# Altium schematic symbol library BW2098POE.SchLib: 55 symbols (part 3 of 3)
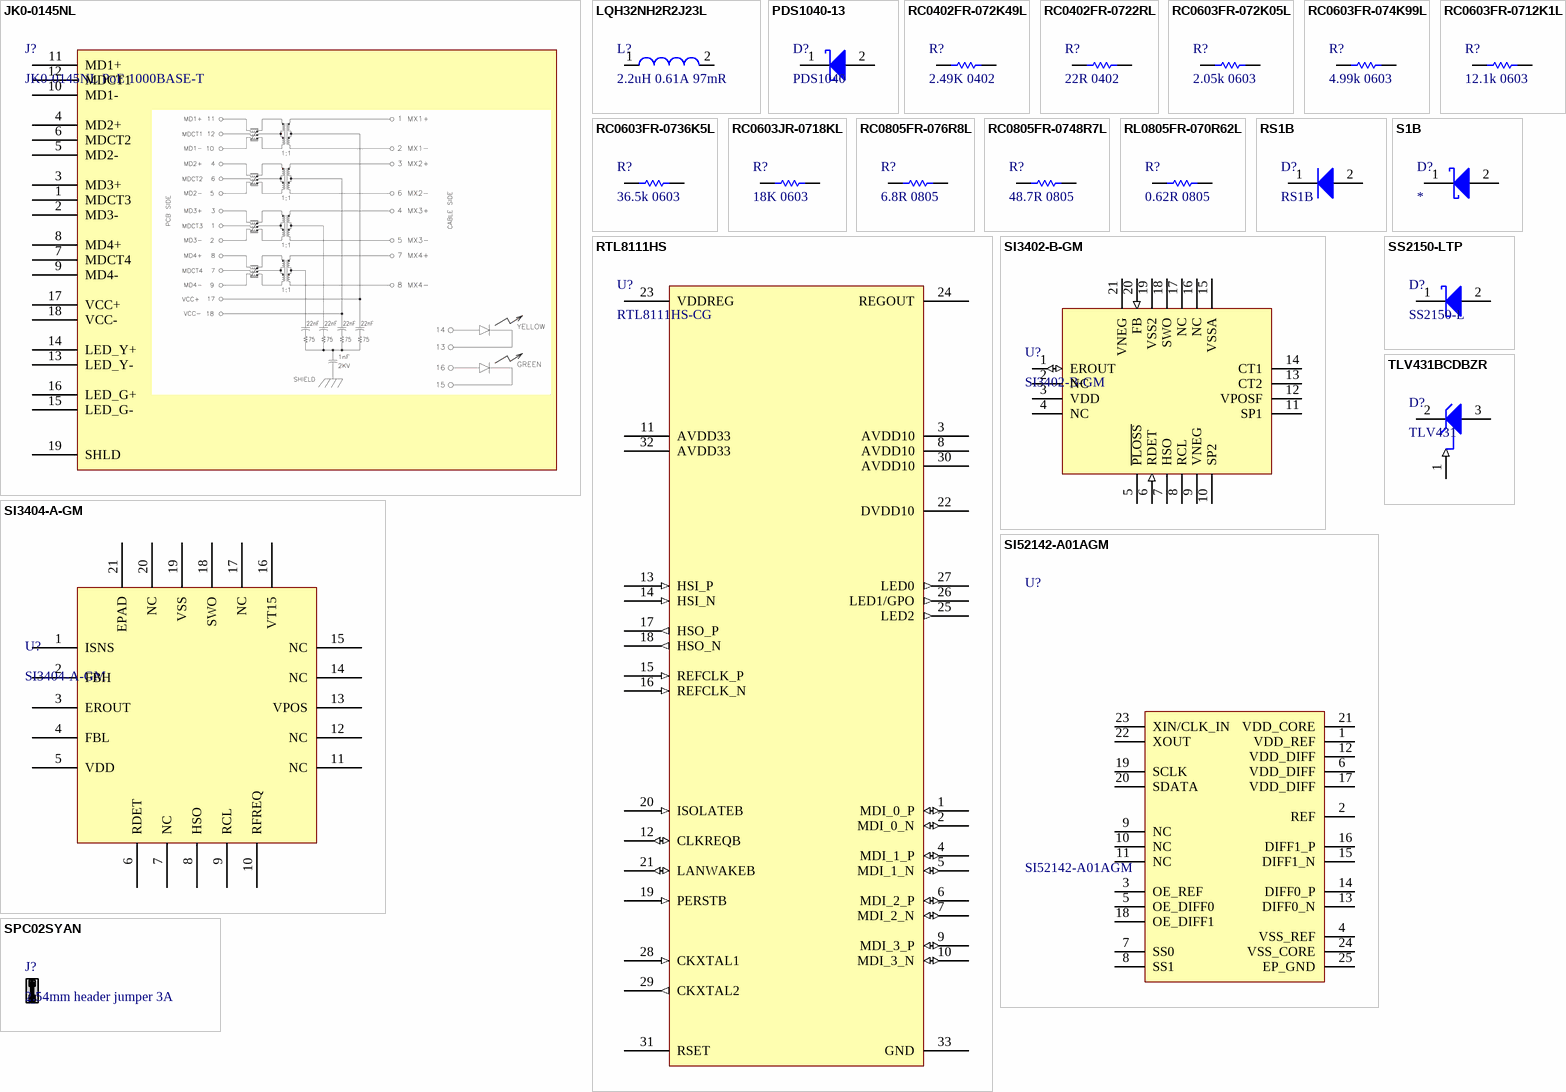
[diagram p4: symbols JK0-0145NL to TLV431BCDBZR]

## RC0805FR-0748R7L
designator R?, comment 48.7R 0805
RES SMD 48.7 OHM 1% 1/8W 0805; Manufacturer 1: Yageo; Manufacturer Part Number 1: RC0805FR-0748R7L; Temperature Coefficient: 100ppm/°C; Power Rating: 125mW; Voltage Rating: 150V; Supplier 1: Digi-Key; Stock 1: 11096; Pricing 1: 1=0.10000, 10=0.04000, 100=0.01630, 1000=0.00731, 2500=0.00635 (USD); RoHS: Yes; Case/Package: 0805; Contact Plating: Tin,Matte; Case Code (Metric): 2012; Case Code (Imperial): 0805; Min Operating Temperature: -55°C; Max Operating Temperature: 155°C; Resistance: 48.7R; Tolerance: 1%; Composition: Thick Film; Package Quantity: 1; Packaging: Tape and Reel; Number of Terminations: 2; Termination: SMD/SMT; Military Standard: Not; Max Power Dissipation: 125mW; Voltage Rating (DC): 150V; Features: Moisture Resistant; Length: 2mm; Height: 0.024inch; Width: 0.049inch; Depth: 1.25mm; Radiation Hardening: No; Lead Free: Lead Free; ComponentLink1URL: https://datasheet.ciiva.com/2457/pyu-r-int-thick-7-2457344.pdf?src-supplier=Digi-Key; ComponentLink1Description: https://datasheet.ciiva.com/2457/pyu-r-int-thick-7-2457344.pdf?src-supplier=Digi-Key; ComponentLink2URL: https://datasheet.ciiva.com/2457/pyu-r-int-thick-7-2457345.pdf?src-supplier=Digi-Key; ComponentLink2Description: https://datasheet.ciiva.com/2457/pyu-r-int-thick-7-2457345.pdf?src-supplier=Digi-Key; ComponentLink3URL: https://datasheet.ciiva.com/2457/pyu-r-int-thick-7-2457346.pdf?src-supplier=Digi-Key; ComponentLink3Description: https://datasheet.ciiva.com/2457/pyu-r-int-thick-7-2457346.pdf?src-supplier=Digi-Key; Supplier 2: Mouser; Supplier 3: Arrow; Supplier Part Number 1: 311-48.7CRCT-ND; Supplier Part Number 2: 603-RC0805FR-0748R7L; Supplier Part Number 3: RC0805FR-0748R7L
footprint RESC0805(2012)_L (Chip Resistor, Body 2.0x1.3mm, IPC High Density)
footprint RESC0805(2012)_M (Chip Resistor, Body 2.0x1.3mm, IPC Low Density)
footprint RESC0805(2012)_N (Chip Resistor, Body 2.0x1.3mm, IPC Medium Density)
pins: 1, 2

## RL0805FR-070R62L
designator R?, comment 0.62R 0805
RES SMD 620 MOHM 1% 1/8W 0805; Manufacturer 1: Yageo; Manufacturer Part Number 1: RL0805FR-070R62L; Resistance: 620mR; Power Rating: 125mW; Temperature Coefficient: 200ppm/°C; Voltage Rating (DC): 300V; Supplier 1: Digi-Key; Stock 1: 16217; Pricing 1: 1=0.33000, 10=0.28200, 100=0.11030, 1000=0.04619, 2500=0.04234 (USD); RoHS: Yes; Case/Package: 0805; Weight: 0.000194oz; Case Code (Metric): 2012; Case Code (Imperial): 0805; Contact Plating: Tin,Matte; Min Operating Temperature: -55°C; Max Operating Temperature: 125°C; Packaging: Tape and Reel; Tolerance: 1%; Package Quantity: 1; Composition: Thick Film; Termination: SMD/SMT; Number of Terminations: 2; Max Power Dissipation: 125mW; Features: Moisture Resistant; Length: 0.079inch; Height: 0.024inch; Width: 0.049inch; Radiation Hardening: No; Lead Free: Lead Free; ComponentLink1URL: https://datasheet.ciiva.com/15328/pyu-rl-521-rohs-l-5-15328303.pdf?src-supplier=Mouser; ComponentLink1Description: https://datasheet.ciiva.com/15328/pyu-rl-521-rohs-l-5-15328303.pdf?src-supplier=Mouser; Supplier 2: Mouser; Supplier 3: Future Electronics; Supplier Part Number 1: 311-.62SCT-ND; Supplier Part Number 2: 603-RL0805FR-070R62L; Supplier Part Number 3: RL0805FR-070R62L-CUTT
footprint RESC0805(2012)_L (Chip Resistor, Body 2.0x1.3mm, IPC High Density)
footprint RESC0805(2012)_M (Chip Resistor, Body 2.0x1.3mm, IPC Low Density)
footprint RESC0805(2012)_N (Chip Resistor, Body 2.0x1.3mm, IPC Medium Density)
pins: 1, 2

## RS1B
designator D?
DIODE GEN PURP 100V 1A SMA; Manufacturer 1: ON Semiconductor / Fairchild; Reverse Recovery Time: 150ns; Element Configuration: Single; Peak Reverse Current: 5uA; Peak Non-Repetitive Surge Current: 30A; Forward Voltage: 1.3V; Polarity: Standard; Capacitance: 10pF; Power Dissipation: 1.19W; Supplier 1: Digi-Key; Manufacturer Part Number 1: RS1B; Stock 1: 3961; Pricing 1: 1=0.43000, 10=0.32100, 100=0.15260, 500=0.12452, 1000=0.09239 (USD); RoHS: Yes; Mount: Surface Mount; Case/Package: SMA; Number of Pins: 2; Weight: 0.106g; Min Operating Temperature: -55°C; Max Operating Temperature: 150°C; Packaging: Tape and Reel; Forward Current: 1A; Max Repetitive Reverse Voltage (Vrrm): 100V; Max Reverse Voltage (DC): 100V; Average Rectified Current: 1A; Package Quantity: 1; Max Surge Current: 30A; Recovery Time: 150ns; Voltage Rating (DC): 100V; Current Rating: 1A; Output Current: 1A; Max Forward Surge Current (Ifsm): 30A; Reverse Voltage: 100V; Length: 4.75mm; Height: 2.2mm; Width: 2.95mm; Radiation Hardening: No; Lead Free: Lead Free; ComponentLink1URL: https://datasheet.ciiva.com/4452/rs1b-191999-4452400.pdf?src-supplier=Mouser; ComponentLink1Description: https://datasheet.ciiva.com/4452/rs1b-191999-4452400.pdf?src-supplier=Mouser; ComponentLink2URL: https://datasheet.ciiva.com/17433/rs1b-17433986.pdf?src-supplier=Future+Electronics; ComponentLink2Description: https://datasheet.ciiva.com/17433/rs1b-17433986.pdf?src-supplier=Future+Electronics; ComponentLink3URL: https://datasheet.ciiva.com/26232/rs1m-26232022.pdf?src-supplier=Avnet+Europe; ComponentLink3Description: https://datasheet.ciiva.com/26232/rs1m-26232022.pdf?src-supplier=Avnet+Europe; ComponentLink4URL: https://datasheet.ciiva.com/6381/rs1a-6381114.pdf?src-supplier=Digi-Key; ComponentLink4Description: https://datasheet.ciiva.com/6381/rs1a-6381114.pdf?src-supplier=Digi-Key; ComponentLink5URL: https://datasheet.ciiva.com/8300/rs1m-8300922.pdf?src-supplier=Avnet; ComponentLink5Description: https://datasheet.ciiva.com/8300/rs1m-8300922.pdf?src-supplier=Avnet; ComponentLink6URL: https://datasheet.ciiva.com/6381/rs1a-6381113.pdf?src-supplier=Digi-Key; ComponentLink6Description: https://datasheet.ciiva.com/6381/rs1a-6381113.pdf?src-supplier=Digi-Key; ComponentLink7URL: https://datasheet.ciiva.com/6381/rs1a-6381115.pdf?src-supplier=Digi-Key; ComponentLink7Description: https://datasheet.ciiva.com/6381/rs1a-6381115.pdf?src-supplier=Digi-Key; ComponentLink8URL: https://datasheet.ciiva.com/26818/getdatasheetpartid-71159-26818043.pdf?src-supplier=Verical; ComponentLink8Description: https://datasheet.ciiva.com/26818/getdatasheetpartid-71159-26818043.pdf?src-supplier=Verical; Supplier 2: Newark; Supplier 3: Mouser; Supplier Part Number 1: RS1BFSCT-ND; Supplier Part Number 2: 29AC9918; Supplier Part Number 3: 512-RS1B
footprint RS1B (Molded Diode, 2-Leads, Body 4.30x2.59mm, IPC Medium Density)
pins: 1 K, 2 A

## RTL8111HS
designator U?, comment RTL8111HS-CG
IC ETHERNET/PCIe PHY Realtek; Manufacturer 1: Realtek; Manufacturer Part Number 1: RTL8111HS-CG; Supplier 1: Symmetry Electronics; Supplier Part Number 1: RTL8111HS-CG; Supplier 2: Future Electronics; Supplier Part Number 2: RTL8111HS-CG
footprint RTL8111Hx-CG (QFN, 32-Leads, Body 4.00x4.00mm, Pitch 0.40mm, Thermal Pad 2.70x2.70mm, IPC High Density)
pins: 1 MDI_0_P (io), 2 MDI_0_N (io), 3 AVDD10, 4 MDI_1_P (io), 5 MDI_1_N (io), 6 MDI_2_P (io), 7 MDI_2_N (io), 8 AVDD10, 9 MDI_3_P (io), 10 MDI_3_N (io), 11 AVDD33, 12 CLKREQB (io) "Ref Clk Request Signal. Active low. 1.8/3.3V compatible. Open Drain. Used by device to request starting of the PCIe ref clk. Pin also used by L1.off mechanism - can be asserted by device or system to initiate an L1 exit.", 13 HSI_P (in), 14 HSI_N (in), 15 REFCLK_P (in), 16 REFCLK_N (in), 17 HSO_P (out), 18 HSO_N (out), 19 PERSTB (in) "PCIe Reset Signal. Active low. 1.8/3.3V compatible. When asserted at POR, device returns to a pre-defined reset state and is ready for init and config after de-assertion of PERSTB", 20 ISOLATEB (in) "Active low. 1.8V/3.3V compatible. Used to isolate device from PCIe bus. Device will not drive its PCIe outputs (except LANWAKEB) and will not sample its PCIe input when this pin is asserted. This pin follows system state S0 to high, and S3/S4 to low.", 21 LANWAKEB (io) "Open drain, Active low. 1.8/3.3V compatible. Used to reactivate the PCIe slot's main power rails and ref clks.", 22 DVDD10, 23 VDDREG, 24 REGOUT, 25 LED2 (out), 26 LED1/GPO (out), 27 LED0 (out), 28 CKXTAL1 (in), 29 CKXTAL2 (out), 30 AVDD10, 31 RSET "External resistor reference", 32 AVDD33, 33 GND

## S1B
designator D?
DIODE GEN PURP 100V 1A SMA; Manufacturer 1: ON Semiconductor / Fairchild; Manufacturer Part Number 1: S1B; Forward Voltage: 1.1V; Polarity: Standard; Capacitance: 12pF; Max Surge Current: 40A; Peak Reverse Current: 1uA; Peak Non-Repetitive Surge Current: 30A; Element Configuration: Single; Recovery Time: 1800ns; Reverse Recovery Time: 1.8us; Power Dissipation: 1.4W; Supplier 1: Digi-Key; Stock 1: 85243; Pricing 1: 1=0.24000, 10=0.19800, 100=0.08110, 500=0.06768, 1000=0.04702 (USD); RoHS: Yes; Mount: Surface Mount; Case/Package: SMA; Number of Pins: 2; Weight: 0.106g; Contact Plating: Tin,Matte; Min Operating Temperature: -55°C; Max Operating Temperature: 150°C; Packaging: Tape and Reel; Current Rating: 1A; Package Quantity: 1; Voltage Rating (DC): 100V; Output Current: 1A; Forward Current: 1A; Average Rectified Current: 1A; Max Reverse Voltage (DC): 100V; Max Repetitive Reverse Voltage (Vrrm): 100V; Max Forward Surge Current (Ifsm): 30A; Reverse Voltage: 100V; Length: 4.75mm; Height: 2.2mm; Width: 2.95mm; Radiation Hardening: No; Lead Free: Lead Free; REACH SVHC: No SVHC; ComponentLink1URL: https://datasheet.ciiva.com/4452/s1b-196602-4452914.pdf?src-supplier=Mouser; ComponentLink1Description: https://datasheet.ciiva.com/4452/s1b-196602-4452914.pdf?src-supplier=Mouser; ComponentLink2URL: https://datasheet.ciiva.com/25624/0900766b810e25be-25624908.pdf?src-supplier=RSComponents; ComponentLink2Description: https://datasheet.ciiva.com/25624/0900766b810e25be-25624908.pdf?src-supplier=RSComponents; ComponentLink3URL: https://datasheet.ciiva.com/916/s1a-916901.pdf?src-supplier=Digi-Key; ComponentLink3Description: https://datasheet.ciiva.com/916/s1a-916901.pdf?src-supplier=Digi-Key; ComponentLink4URL: https://datasheet.ciiva.com/916/s1a-916902.pdf?src-supplier=Digi-Key; ComponentLink4Description: https://datasheet.ciiva.com/916/s1a-916902.pdf?src-supplier=Digi-Key; ComponentLink5URL: https://datasheet.ciiva.com/916/s1a-916903.pdf?src-supplier=Digi-Key; ComponentLink5Description: https://datasheet.ciiva.com/916/s1a-916903.pdf?src-supplier=Digi-Key; Supplier 2: Mouser; Supplier 3: Newark; Supplier Part Number 1: S1BFSCT-ND; Supplier Part Number 2: 512-S1B; Supplier Part Number 3: 26AC4113
footprint SB1 (Molded Diode, 2-Leads, Body 4.30x2.59mm, IPC Medium Density)
pins: 1 K, 2 A

## SI3402-B-GM
designator U?
IC POE PD LOW EMI SW REG 20VQFN; Manufacturer 1: Silicon Labs; Number of Channels: 1; Max Power Dissipation: 17W; Operating Supply Current: 2mA; Supplier 1: Digi-Key; Manufacturer Part Number 1: SI3402-B-GM; Stock 1: 1551; Pricing 1: 1=1.65000, 25=1.58640, 100=1.52550, 1000=1.50290 (USD); RoHS: Yes; Case/Package: VQFN; Min Operating Temperature: -40°C; Max Operating Temperature: 85°C; Packaging: Tray; ComponentLink1URL: http://www.mouser.com/ds/2/368/Si3402-B-892354.pdf?src-supplier=Mouser; ComponentLink1Description: http://www.mouser.com/ds/2/368/Si3402-B-892354.pdf?src-supplier=Mouser; ComponentLink2URL: https://www.silabs.com/Support%20Documents%2fTechnicalDocs%2fSi3402-B.pdf?src-supplier=Digi-Key; ComponentLink2Description: https://www.silabs.com/Support%20Documents%2fTechnicalDocs%2fSi3402-B.pdf?src-supplier=Digi-Key; Supplier 2: Mouser; Supplier 3: Newark; Supplier Part Number 1: 336-4205-ND; Supplier Part Number 3: 75AC1959; Supplier Part Number 2: 634-SI3402-B-GM
footprint SI3402-B-GM (QFN, 20-Leads, Body 5x5mm, Pitch 0.8mm, Thermal Pad 2.7x2.7mm, IPC Medium Density)
pins: 1 EROUT (io) "Error-amplifier output and PWM input; directly connected to opto-coupler in isolated application", 2 NC "Soft-start output pin ramps voltage across external soft-start capacitor to allow switcher to ramp output slowly.", 3 VDD (power) "5 V supply rail for switcher; provides drive for opto-coupler", 4 NC "Isolated mode soft start enable input. Tie to VDD for non-isolated applications. Connect a 0.1 uF capacitor between this pin and VSSA for isolated applications.", 5 ~{PLOSS} (oc) "Early power loss indicator; open drain output is pulled to VPOS when VPORT is applied.", 6 RDET (in) "Input pin for external precision detection resistor; also used for establishing absolute current reference.", 7 HSO (power) "Hotswap switch output; connects to VNEG through hotswap switch.", 8 RCL "Input pin for external precision classification resistor; float if optional RCLASS is unused.", 9 VNEG (power) "Rectified high-voltage supply, negative rail. Must be connected to thermal PAD node (VNEG) on package bottom. This thermal pad must be connected to VNEG (pin #9) as well as a 2 in2 heat spreader plane using a minimum of nine (See Datasheet)", 10 SP2 (power) "High-voltage supply input from spare pair; polarity-insensitive.", 11 SP1 (power) "High-voltage supply input from spare pair; polarity-insensitive.", 12 VPOSF (power) "Rectified high-voltage supply, positive rail (force node)", 13 CT2 (power) "High-voltage supply input from center tap of Ethernet transformer; polarity-insensitive.", 14 CT1 (power) "High-voltage supply input from center tap of Ethernet transformer; polarity-insensitive.", 15 VSSA (power) "Analog ground.", 16 NC "The positive rail sense node function is no longer implemented. Therefore, this pin is not internally connected.", 17 NC "This former negative supply rail pin is no longer implemented. Therefore, this pin is not internally connected.", 18 SWO (oc) "Switching transistor output; drain of switching N-FET.", 19 VSS2 (power) "Negative supply rail for switcher; externally tied to HSO.", 20 FB (in) "Regulated feedback input in non-isolated application.", 21 VNEG (power) "Rectified high-voltage supply, negative rail. Must be connected to thermal PAD node (VNEG) on package bottom. This thermal pad must be connected to VNEG (pin #9) as well as a 2 in2 heat spreader plane using a minimum of nine (See Datasheet)"

## SI3404-A-GM
designator U?
IC POE CNTRL 1 CHANNEL 20QFN; Manufacturer 1: Silicon Labs; Supplier 1: Digi-Key; Manufacturer Part Number 1: SI3404-A-GM; Stock 1: 1481; Pricing 1: 1=1.46000, 25=1.41040, 100=1.35600, 1000=1.33340 (USD); RoHS: No; ComponentLink1URL: https://www.silabs.com/documents/public/data-sheets/si3404-datasheet.pdf?src-supplier=Digi-Key; ComponentLink1Description: https://www.silabs.com/documents/public/data-sheets/si3404-datasheet.pdf?src-supplier=Digi-Key; Supplier 2: Mouser; Supplier Part Number 1: 336-4270-ND; Supplier Part Number 2: 634-SI3404-A-GM
footprint Si3404-A-GM (QFN, 20-Leads, Body 4.00x4.00mm, Pitch 0.50mm, Thermal Pad 2.60x2.60mm, IPC Medium Density)
pins: 1 ISNS "Chip current sense resistor input", 2 FBH "High side (VPOS referred) dc-dc feedback (Buck converter)", 3 EROUT "Error amplifier current output, compensation impedance", 4 FBL "Low side (VSS referenced) dc-dc feedback (Flyback converter)", 5 VDD "5 V regulator output", 6 RDET "Detection resistor", 7 NC "(NC) Connect to VNEG for better thermal performance", 8 HSO "Hotswap switch output", 9 RCL "Classification resistor", 10 RFREQ "Oscillator frequency tuning resistor, tie to VPOS to select", 11 NC "(NC) Connect to VNEG for better thermal performance", 12 NC "(NC) Connect to VNEG for better thermal performance", 13 VPOS "Rectified high-voltage supply positive rail", 14 NC "(NC) Connect to VNEG for better thermal performance", 15 NC "(NC) Connect to VNEG for better thermal performance", 16 VT15 "dc-dc transformer auxiliary winding input", 17 NC "(NC) Connect to VNEG for better thermal performance", 18 SWO "Internal dc-dc switch output (NMOS drain)", 19 VSS "dc-dc converter primary ground", 20 NC "(NC) Connect to VNEG for better thermal performance", 21 EPAD "Rectified high voltage supply ground"

## SI52142-A01AGM
designator U?
IC CLK GENERATOR 200MHZ 24QFN; Manufacturer 1: Silicon Labs; Number of Outputs: 2; Operating Supply Voltage: 3.3V; Number of Circuits: 1; Max Duty Cycle: 55%; Input: Clock; PLL: Yes; Frequency: 100MHz; Min Supply Voltage: 3.135V; Max Supply Voltage: 3.465V; Supplier 1: Digi-Key; Manufacturer Part Number 1: SI52142-A01AGM; RoHS: Yes; Category: Clock and Timing; Stock 1: 398; Pricing 1: 1=1.81000, 25=1.66320, 100=1.51200, 1000=1.36080 (USD); Case/Package: QFN; Number of Pins: 24; Min Operating Temperature: -40°C; Max Operating Temperature: 85°C; Package Quantity: 490; Packaging: Tray; Max Frequency: 200MHz; Length: 4mm; Height: 0.75mm; Width: 4mm; Radiation Hardening: No; REACH SVHC: Unknown; ComponentLink1URL: https://datasheet.ciiva.com/1178/si52142-1178690.pdf?src-supplier=Digi-Key; ComponentLink1Description: https://datasheet.ciiva.com/1178/si52142-1178690.pdf?src-supplier=Digi-Key; ComponentLink2URL: https://datasheet.ciiva.com/26919/getdatasheetpartid-550913-26919827.pdf?src-supplier=Verical; ComponentLink2Description: https://datasheet.ciiva.com/26919/getdatasheetpartid-550913-26919827.pdf?src-supplier=Verical; ComponentLink3URL: https://datasheet.ciiva.com/46413/1813417-46413349.pdf?src-supplier=Element14; ComponentLink3Description: https://datasheet.ciiva.com/46413/1813417-46413349.pdf?src-supplier=Element14; ComponentLink4URL: https://datasheet.ciiva.com/4771/si52142-4771159.pdf?src-supplier=Mouser; ComponentLink4Description: https://datasheet.ciiva.com/4771/si52142-4771159.pdf?src-supplier=Mouser; Supplier 2: Mouser; Supplier 3: Newark; Supplier Part Number 1: 336-2157-ND; Supplier Part Number 3: 54X5497; Supplier Part Number 2: 634-SI52142A01A-GM
footprint SI52142-A01AGM (24-QFN (4x4))
pins: 1 VDD_REF, 2 REF, 3 OE_REF, 4 VSS_REF, 5 OE_DIFF0, 6 VDD_DIFF, 7 SS0, 8 SS1, 9 NC, 10 NC, 11 NC, 12 VDD_DIFF, 13 DIFF0_N, 14 DIFF0_P, 15 DIFF1_N, 16 DIFF1_P, 17 VDD_DIFF, 18 OE_DIFF1, 19 SCLK, 20 SDATA, 21 VDD_CORE, 22 XOUT, 23 XIN/CLK_IN, 24 VSS_CORE, 25 EP_GND

## SPC02SYAN
designator J?, comment 2.54mm header jumper 3A
CONN JUMPER SHORTING GOLD FLASH; Manufacturer 1: Sullins; Manufacturer Part Number 1: SPC02SYAN; Number of Positions: 2; Pitch: 0.1inch; Supplier 1: Digi-Key; RoHS: Yes; Category: Connectors; Stock 1: 308371; Pricing 1: 1=0.10000, 10=0.05900, 25=0.04400, 50=0.03780, 100=0.03650, 250=0.03152, 500=0.03024, 1000=0.02646, 2500=0.02394 (USD); Color: Black; Contact Plating: Gold; Package Quantity: 1000; Packaging: Bulk; Height: 0.256inch; Lead Free: Lead Free; ComponentLink1URL: https://datasheet.ciiva.com/16203/spc02syan-0-3293-16203044.pdf?src-supplier=Future+Electronics; ComponentLink1Description: https://datasheet.ciiva.com/16203/spc02syan-0-3293-16203044.pdf?src-supplier=Future+Electronics; ComponentLink2URL: https://datasheet.ciiva.com/767/134-c02syan-11134-767878.pdf?src-supplier=Digi-Key; ComponentLink2Description: https://datasheet.ciiva.com/767/134-c02syan-11134-767878.pdf?src-supplier=Digi-Key; Supplier Part Number 1: S9001-ND; Supplier 2: Future Electronics; Supplier Part Number 2: SPC02SYAN-BAG
footprint SPC02SYAN (2 (1 x 2) Position Shunt Connector Black Closed Top 0.100" (2.54mm) Tin)

## SS2150-LTP
designator D?, comment SS2150-L
DIODE SCHOTTKY 150V 2A DO214AC; Manufacturer 1: MCC; Manufacturer Part Number 1: SS2150-LTP; Max Surge Current: 50A; Max Reverse Leakage Current: 500uA; Supplier 1: Digi-Key; Stock 1: 43012; Pricing 1: 1=0.42000, 10=0.31300, 100=0.14870, 500=0.12134, 1000=0.09002, 2500=0.07906 (USD); RoHS: Yes; Mount: Surface Mount; Number of Pins: 2; Min Operating Temperature: -55°C; Max Operating Temperature: 125°C; Packaging: Tape and Reel; Package Quantity: 1; Average Rectified Current: 2A; Max Reverse Voltage (DC): 150V; Lead Free: Lead Free; ComponentLink1URL: https://datasheet.ciiva.com/4718/ss22-l-ss2150-ldo-214ac-28314-4718353.pdf?src-supplier=Mouser; ComponentLink1Description: https://datasheet.ciiva.com/4718/ss22-l-ss2150-ldo-214ac-28314-4718353.pdf?src-supplier=Mouser; ComponentLink2URL: https://datasheet.ciiva.com/913/ss22-l-ss2150-ldo-214ac-913191.pdf?src-supplier=Digi-Key; ComponentLink2Description: https://datasheet.ciiva.com/913/ss22-l-ss2150-ldo-214ac-913191.pdf?src-supplier=Digi-Key; ComponentLink3URL: https://datasheet.ciiva.com/913/ss22-l-ss2150-ldo-214ac-913192.pdf?src-supplier=Digi-Key; ComponentLink3Description: https://datasheet.ciiva.com/913/ss22-l-ss2150-ldo-214ac-913192.pdf?src-supplier=Digi-Key; ComponentLink4URL: https://datasheet.ciiva.com/913/ss22-l-ss2150-ldo-214ac-913193.pdf?src-supplier=Digi-Key; ComponentLink4Description: https://datasheet.ciiva.com/913/ss22-l-ss2150-ldo-214ac-913193.pdf?src-supplier=Digi-Key; Supplier 2: Mouser; Supplier 3: Future Electronics; Supplier Part Number 1: SS2150-LTPMSCT-ND; Supplier Part Number 2: 833-SS2150-LTP; Supplier Part Number 3: SS2150-LTP-CUTT
footprint SS2150 (Molded Diode, 2-Leads, Body 4.30x2.59mm, IPC Medium Density)
pins: 1 K, 2 A

## TLV431BCDBZR
designator D?, comment TLV431
IC VREF SHUNT ADJ SOT23-3; Manufacturer 1: Texas Instruments; Manufacturer Part Number 1: TLV431BCDBZR; Tolerance: 0.5%; Max Input Voltage: 7V; Output Voltage: 6V; Max Output Current: 15mA; Temperature Coefficient: 129ppm/°C; Cathode Current: 100uA; Reference Type: Shunt,Adjustable; Number of Channels: 1; Min Input Voltage: 1.24V; Supplier 1: Digi-Key; Stock 1: 3209; Pricing 1: 1=0.92000, 10=0.81200, 100=0.57850, 500=0.46772, 1000=0.35695 (USD); RoHS: Yes; Case/Package: SOT-23; Number of Pins: 3; Min Operating Temperature: -40°C; Max Operating Temperature: 125°C; Packaging: Tape and Reel; Package Quantity: 1; Output Current: 15mA; Max Output Voltage: 6V; Reference Voltage: 6V; Radiation Hardening: No; Lead Free: Lead Free; REACH SVHC: No SVHC; ComponentLink1URL: https://datasheet.ciiva.com/26889/tlv431bcdbzr-26889546.pdf?src-supplier=IIIC; ComponentLink1Description: https://datasheet.ciiva.com/26889/tlv431bcdbzr-26889546.pdf?src-supplier=IIIC; ComponentLink2URL: https://datasheet.ciiva.com/2006/tlv431a-2006546.pdf?src-supplier=Digi-Key; ComponentLink2Description: https://datasheet.ciiva.com/2006/tlv431a-2006546.pdf?src-supplier=Digi-Key; ComponentLink3URL: https://datasheet.ciiva.com/2006/tlv431a-2006547.pdf?src-supplier=Digi-Key; ComponentLink3Description: https://datasheet.ciiva.com/2006/tlv431a-2006547.pdf?src-supplier=Digi-Key; ComponentLink4URL: https://datasheet.ciiva.com/2006/tlv431a-2006548.pdf?src-supplier=Digi-Key; ComponentLink4Description: https://datasheet.ciiva.com/2006/tlv431a-2006548.pdf?src-supplier=Digi-Key; ComponentLink5URL: https://datasheet.ciiva.com/26264/tlv431b-26264234.pdf?src-supplier=Avnet+Europe; ComponentLink5Description: https://datasheet.ciiva.com/26264/tlv431b-26264234.pdf?src-supplier=Avnet+Europe; ComponentLink6URL: https://datasheet.ciiva.com/46397/1887487-46397709.pdf?src-supplier=Element14; ComponentLink6Description: https://datasheet.ciiva.com/46397/1887487-46397709.pdf?src-supplier=Element14; Supplier 2: TI store; Supplier 3: Mouser; Supplier Part Number 1: 296-17569-1-ND; Supplier Part Number 2: TLV431BCDBZR; Supplier Part Number 3: 595-TLV431BCDBZR
footprint TLV431BCDBZR (SOT-23-3)
pins: 1 REF (in), 2 CATHODE, 3 ANODE

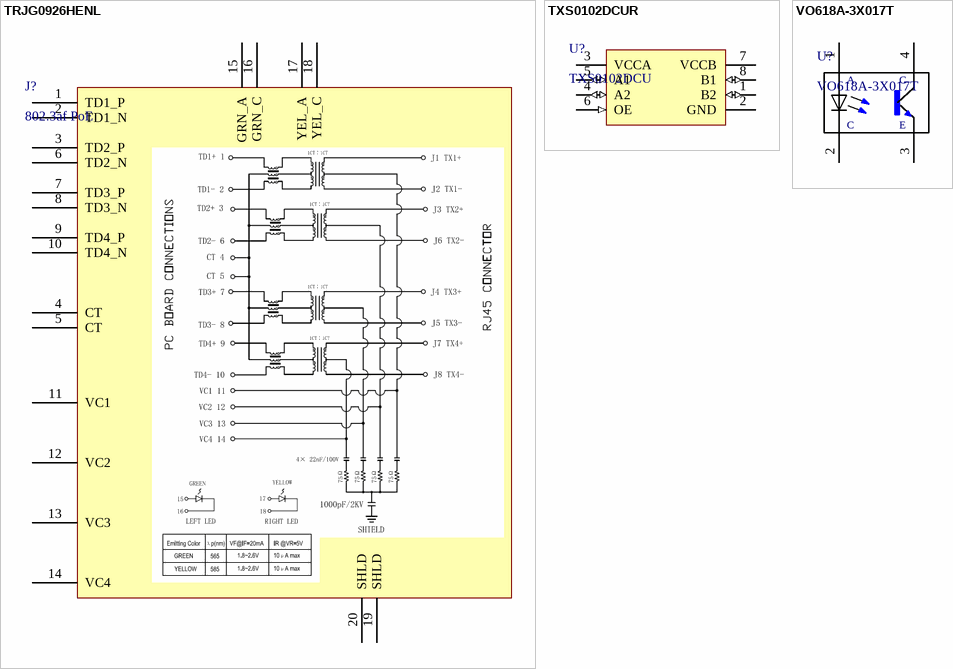
[diagram p2: symbols TRJG0926HENL to VO618A-3X017T]

## TRJG0926HENL
designator J?, comment 802.3af PoE
CONN MAGJACK 1PORT 1000 BASET; Manufacturer 1: Trxcom; Manufacturer Part Number 1: TRJG0926HENL; System: Connector; Supplier 1: Trxcom; Supplier Part Number 1: TRJG0926HENL
footprint TRJG0926HENL (TRXCOM TRJG0926HENL 1000BASE-T PoE)
pins: 1 TD1_P, 2 TD1_N, 3 TD2_P, 4 CT, 5 CT, 6 TD2_N, 7 TD3_P, 8 TD3_N, 9 TD4_P, 10 TD4_N, 11 VC1, 12 VC2, 13 VC3, 14 VC4, 15 GRN_A, 16 GRN_C, 17 YEL_A, 18 YEL_C, 19 SHLD, 20 SHLD

## TXS0102DCUR
designator U?, comment TXS0102DCU
TEXAS INSTRUMENTS - TXS0102DCUR - IC, TRANSLATOR, 2 BIT, BI, US-8; Min Supply Voltage: 1.65V; Max Supply Voltage: 5.5V; Data Rate: 24Mbps; Number of Channels: 2; Propagation Delay: 4.6ns; Turn-On Delay Time: 260ns; High Level Output Current: -20uA; Low Level Output Current: 1mA; Quiescent Current: 14.4uA; Output Type: Voltage; Output Current: 1A; Supplier 1: Digi-Key; Manufacturer 1: Texas Instruments; Manufacturer Part Number 1: TXS0102DCUR; RoHS: Yes; Category: Logic Gates; Stock 1: 55123; Pricing 1: 1=0.75000, 10=0.65900, 25=0.61960, 100=0.50550, 250=0.46956, 500=0.39964, 1000=0.31971 (USD); Case/Package: VSSOP; Number of Pins: 8; Weight: 0.000339oz; Min Operating Temperature: -40°C; Max Operating Temperature: 85°C; Package Quantity: 1; Packaging: Tape and Reel; Logic Function: Translator; Number of Bits: 2; Number of Inputs: 2; Nominal Supply Current: 14.4uA; Radiation Hardening: No; Lead Free: Lead Free; REACH SVHC: No SVHC; ComponentLink1URL: https://datasheet.ciiva.com/15096/getdatasheetpartid-118249-15096172.pdf?src-supplier=Verical; ComponentLink1Description: https://datasheet.ciiva.com/15096/getdatasheetpartid-118249-15096172.pdf?src-supplier=Verical; ComponentLink2URL: https://datasheet.ciiva.com/22653/1846850-22653373.pdf?src-supplier=Farnell; ComponentLink2Description: https://datasheet.ciiva.com/22653/1846850-22653373.pdf?src-supplier=Farnell; ComponentLink3URL: https://datasheet.ciiva.com/1508/1857232-1508821.pdf?src-supplier=Element14; ComponentLink3Description: https://datasheet.ciiva.com/1508/1857232-1508821.pdf?src-supplier=Element14; ComponentLink4URL: https://datasheet.ciiva.com/1899/txs0102-1899368.pdf?src-supplier=Digi-Key; ComponentLink4Description: https://datasheet.ciiva.com/1899/txs0102-1899368.pdf?src-supplier=Digi-Key; ComponentLink5URL: https://datasheet.ciiva.com/1899/txs0102-1899369.pdf?src-supplier=Digi-Key; ComponentLink5Description: https://datasheet.ciiva.com/1899/txs0102-1899369.pdf?src-supplier=Digi-Key; ComponentLink6URL: https://datasheet.ciiva.com/1899/txs0102-1899370.pdf?src-supplier=Digi-Key; ComponentLink6Description: https://datasheet.ciiva.com/1899/txs0102-1899370.pdf?src-supplier=Digi-Key; ComponentLink7URL: https://datasheet.ciiva.com/14287/txs0102-14287516.pdf?src-supplier=Avnet; ComponentLink7Description: https://datasheet.ciiva.com/14287/txs0102-14287516.pdf?src-supplier=Avnet; ComponentLink8URL: https://datasheet.ciiva.com/28499/1863639-28499676.pdf?src-supplier=Element14; ComponentLink8Description: https://datasheet.ciiva.com/28499/1863639-28499676.pdf?src-supplier=Element14; ComponentLink9URL: https://datasheet.ciiva.com/14287/txs0102-14287518.pdf?src-supplier=Avnet; ComponentLink9Description: https://datasheet.ciiva.com/14287/txs0102-14287518.pdf?src-supplier=Avnet; ComponentLink10URL: https://datasheet.ciiva.com/46395/1863639-46395871.pdf?src-supplier=Element14; ComponentLink10Description: https://datasheet.ciiva.com/46395/1863639-46395871.pdf?src-supplier=Element14; Supplier 2: Newark; Supplier 3: Mouser; Supplier Part Number 1: 296-21931-1-ND; Supplier Part Number 2: 30M1878; Supplier Part Number 3: 595-TXS0102DCUR
footprint TXS0102DCUR (TSSOP, 8-Leads, Body 2.00x2.30mm, Pitch 0.50mm)
pins: 1 B2 (io) "Input/output B. Referenced to VCCB.", 2 GND (power) "Ground", 3 VCCA (power) "A-port supply voltage. 1.65 V = VCCA = 3.6 V and VCCA = VCCB", 4 A2 (io) "Input/output A. Referenced to VCCA.", 5 A1 (io) "Input/output A. Referenced to VCCA.", 6 OE (in) "Output enable (active High). Pull OE low to place all outputs in 3-state mode. Referenced to VCCA.", 7 VCCB (power) "B-port supply voltage. 2.3 V = VCCB = 5.5 V", 8 B1 (io) "Input/output B. Referenced to VCCB."

## VO618A-3X017T
designator U?
OPTOISOLATOR 5.3KV TRANS 4-SMD; Manufacturer 1: Vishay Semiconductors; Max Power Dissipation: 150mW; Collector Emitter Voltage (VCEO): 80V; Collector Emitter Saturation Voltage: 400mV; Max Collector Current: 50mA; Max Input Current: 60mA; Number of Channels: 1; Reverse Breakdown Voltage: 6V; Forward Voltage: 1.1V; Current Transfer Ratio: 100%; Supplier 1: Digi-Key; Manufacturer Part Number 1: VO618A-3X017T; Stock 1: 28306; Pricing 1: 1=1.04000, 10=0.80900, 100=0.51980, 500=0.43890 (USD); RoHS: Yes; Mount: Surface Mount; Case/Package: SMD/SMT; Number of Pins: 4; Contact Plating: Tin; Min Operating Temperature: -55°C; Max Operating Temperature: 110°C; Packaging: Tape and Reel; Package Quantity: 1; Forward Current: 60mA; Max Output Voltage: 80V; Output Current per Channel: 50mA; Isolation Voltage: 5.3kV; Number of Elements: 1; Power Dissipation: 150mW; Input Current: 60mA; Radiation Hardening: No; REACH SVHC: Unknown; Lead Free: Lead Free; ComponentLink1URL: https://datasheet.ciiva.com/26183/vo618a-26183397.pdf?src-supplier=Avnet+Europe; ComponentLink1Description: https://datasheet.ciiva.com/26183/vo618a-26183397.pdf?src-supplier=Avnet+Europe; ComponentLink2URL: https://datasheet.ciiva.com/2087/vo618a-2087431.pdf?src-supplier=Digi-Key; ComponentLink2Description: https://datasheet.ciiva.com/2087/vo618a-2087431.pdf?src-supplier=Digi-Key; ComponentLink3URL: https://datasheet.ciiva.com/2087/vo618a-2087432.pdf?src-supplier=Digi-Key; ComponentLink3Description: https://datasheet.ciiva.com/2087/vo618a-2087432.pdf?src-supplier=Digi-Key; ComponentLink4URL: https://datasheet.ciiva.com/2087/vo618a-2087433.pdf?src-supplier=Digi-Key; ComponentLink4Description: https://datasheet.ciiva.com/2087/vo618a-2087433.pdf?src-supplier=Digi-Key; Supplier 2: Newark; Supplier 3: Mouser; Supplier Part Number 1: VO618A-3X017TCT-ND; Supplier Part Number 2: 48W3695; Supplier Part Number 3: 78-VO618A-3X017T
footprint VO618A-3X017T (4-SMD, Gull Wing)
pins: 1 A, 2 C, 3 E, 4 CO